# EAGLE library part LMR50410 (library jmolterLib)
Buck Converter 4V-36V Simple Switcher 1A Continuous Current 700kHz Precision Enable SOT-23-6
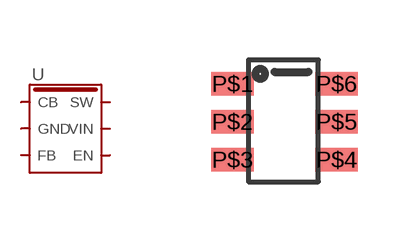
[diagram p5: symbol with the pads of SOT-23-6; footprint SOT-23-6]

Designator prefix -

## LMR50410  [SOT-23-6]
P$1  CB
P$2  GND
P$3  FB
P$4  EN
P$5  VIN
P$6  SW

## Footprint SOT-23-6 (pad centres in mm)
smd 1.1 x 0.6: P$1 0,0; P$2 0,-0.95; P$3 0,-1.9; P$4 2.6,-1.9; P$5 2.6,-0.95; P$6 2.6,0